# EAGLE library part MLX90609-BREAKOUT (library omc)
MLX90609 Breakout Board
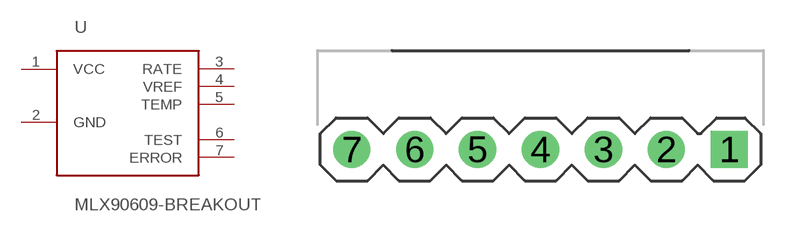
[diagram p3: symbol with the pads of MLX90609-BREAKOUT; footprint MLX90609-BREAKOUT]

Designator prefix U

## MLX90609-BREAKOUT  [MLX90609-BREAKOUT]
1  VCC  pwr
2  GND  pwr
3  RATE  out
4  VREF  out
5  TEMP  out
6  TEST  in
7  ERROR  out

## Footprint MLX90609-BREAKOUT (pad centres in mm)
drill 1 square: 1 7.62,0
drill 1 round: 2 5.08,0; 3 2.54,0; 4 0,0; 5 -2.54,0; 6 -5.08,0; 7 -7.62,0